# EAGLE library part 61301311821 (library Board-to-Board (rev18a))
WR-PHD 2.54mm Socket Header, 13 Pins =>Code : Con_BTB_SHD_2.54_1_THT_61301311821 <http://katalog.we-online.de/media/images/eican/Con_BTB_SHD_2.54_1_THT_6130xx11821_pf2.jpg> Details see: http://katalog.we-online.de/en/em/613_0xx_118_21 Created 2014-05-29, Karrer Zheng 2014 (C) Würth Elektronik
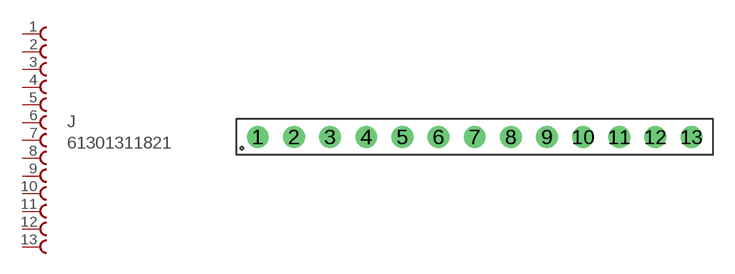
[diagram p95: symbol with the pads of 61301311821; footprint 61301311821]

Designator prefix J

## 61301311821  [61301311821]
1  1  pas
2  2  pas
3  3  pas
4  4  pas
5  5  pas
6  6  pas
7  7  pas
8  8  pas
9  9  pas
10  10  pas
11  11  pas
12  12  pas
13  13  pas

## Footprint 61301311821 (pad centres in mm)
WR-PHD 2.54mm Socket Header, 13 Pins
drill 1.02: 1 -13.97,0; 2 -11.43,0; 3 -8.89,0; 4 -6.35,0; 5 -3.81,0; 6 -1.27,0; 7 1.27,0; 8 3.81,0; 9 6.35,0; 10 8.89,0; 11 11.43,0; 12 13.97,0; 13 16.51,0